# Altium schematic symbol library 20021121-00010C4LF.SchLib: 1 symbol
Pins are listed as number, name and electrical type; pins without a type are passive.

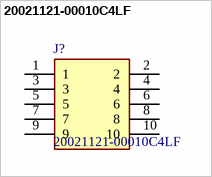
[diagram p0: symbol 20021121-00010C4LF]

## 20021121-00010C4LF
designator J?
Headers & Wire Housings 1.27x1.27mm BTB, Hdr Unshrd, SMT, 10 Pos; Manufacturer_Name: Amphenol; Geometry.Height: 5.7mm; Manufacturer_Part_Number: 20021121-00010C4LF; Mouser Part Number: 649-202112100010C4LF; Mouser Price/Stock: https://www.mouser.co.uk/ProductDetail/Amphenol-FCI/20021121-00010C4LF?qs=iIVTEDlrHA1ddfCJGH4Nhg%3D%3D; Arrow Part Number: *; Arrow Price/Stock: *; Datasheet Link: https://cdn.amphenol-cs.com/media/wysiwyg/files/drawing/20021121.pdf
footprint 2002112100010C4LF
pins: 1, 2, 3, 4, 5, 6, 7, 8, 9, 10